# EAGLE library part MFP201N (library SPDT switch)
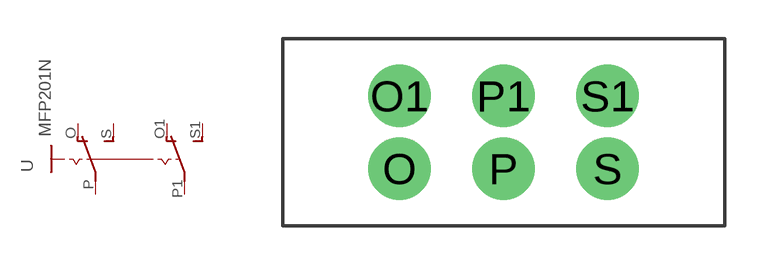
[diagram p0: symbol with the pads of MFP201N; footprint MFP201N]

Designator prefix -

## MFP201N  [MFP201N]
O  O  pas
O1  O1  pas
P  P  pas
P1  P1  pas
S  S  pas
S1  S1  pas

## Footprint MFP201N (pad centres in mm)
http://ro.farnell.com/jsp/search/productdetail.jsp?SKU=1201431
drill 1.6: O -4,-1.4; O1 -4,1.4; P 0,-1.4; P1 0,1.4; S 4,-1.4; S1 4,1.4